# EAGLE library part M06_SMD (library smd_pin_headers)
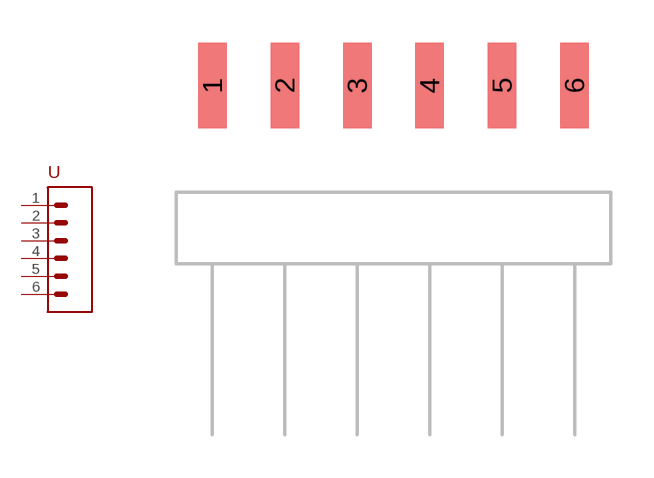
[diagram p1: symbol with the pads of 1X06-SMD; footprint 1X06-SMD]

Designator prefix -

## M06_SMD  [1X06-SMD]
1  P$1
2  P$2
3  P$3
4  P$4
5  P$5
6  P$6

## Footprint 1X06-SMD (pad centres in mm)
smd 1 x 3: 1 -6.35,5; 2 -3.81,5; 3 -1.27,5; 4 1.27,5; 5 3.81,5; 6 6.35,5